# Altium footprint library Connector.PcbLib: 170 footprints (part 8 of 11)
Each footprint in its own frame and in the unit in brackets; x right, y up, seen from the top. Pads: shape width x height; smd on the part's side, far side on the other; paste and mask are expansions set on the pad; w line width, h text height; cw(c..) or ccw(c..) is an arc to the next point about the centre after c.
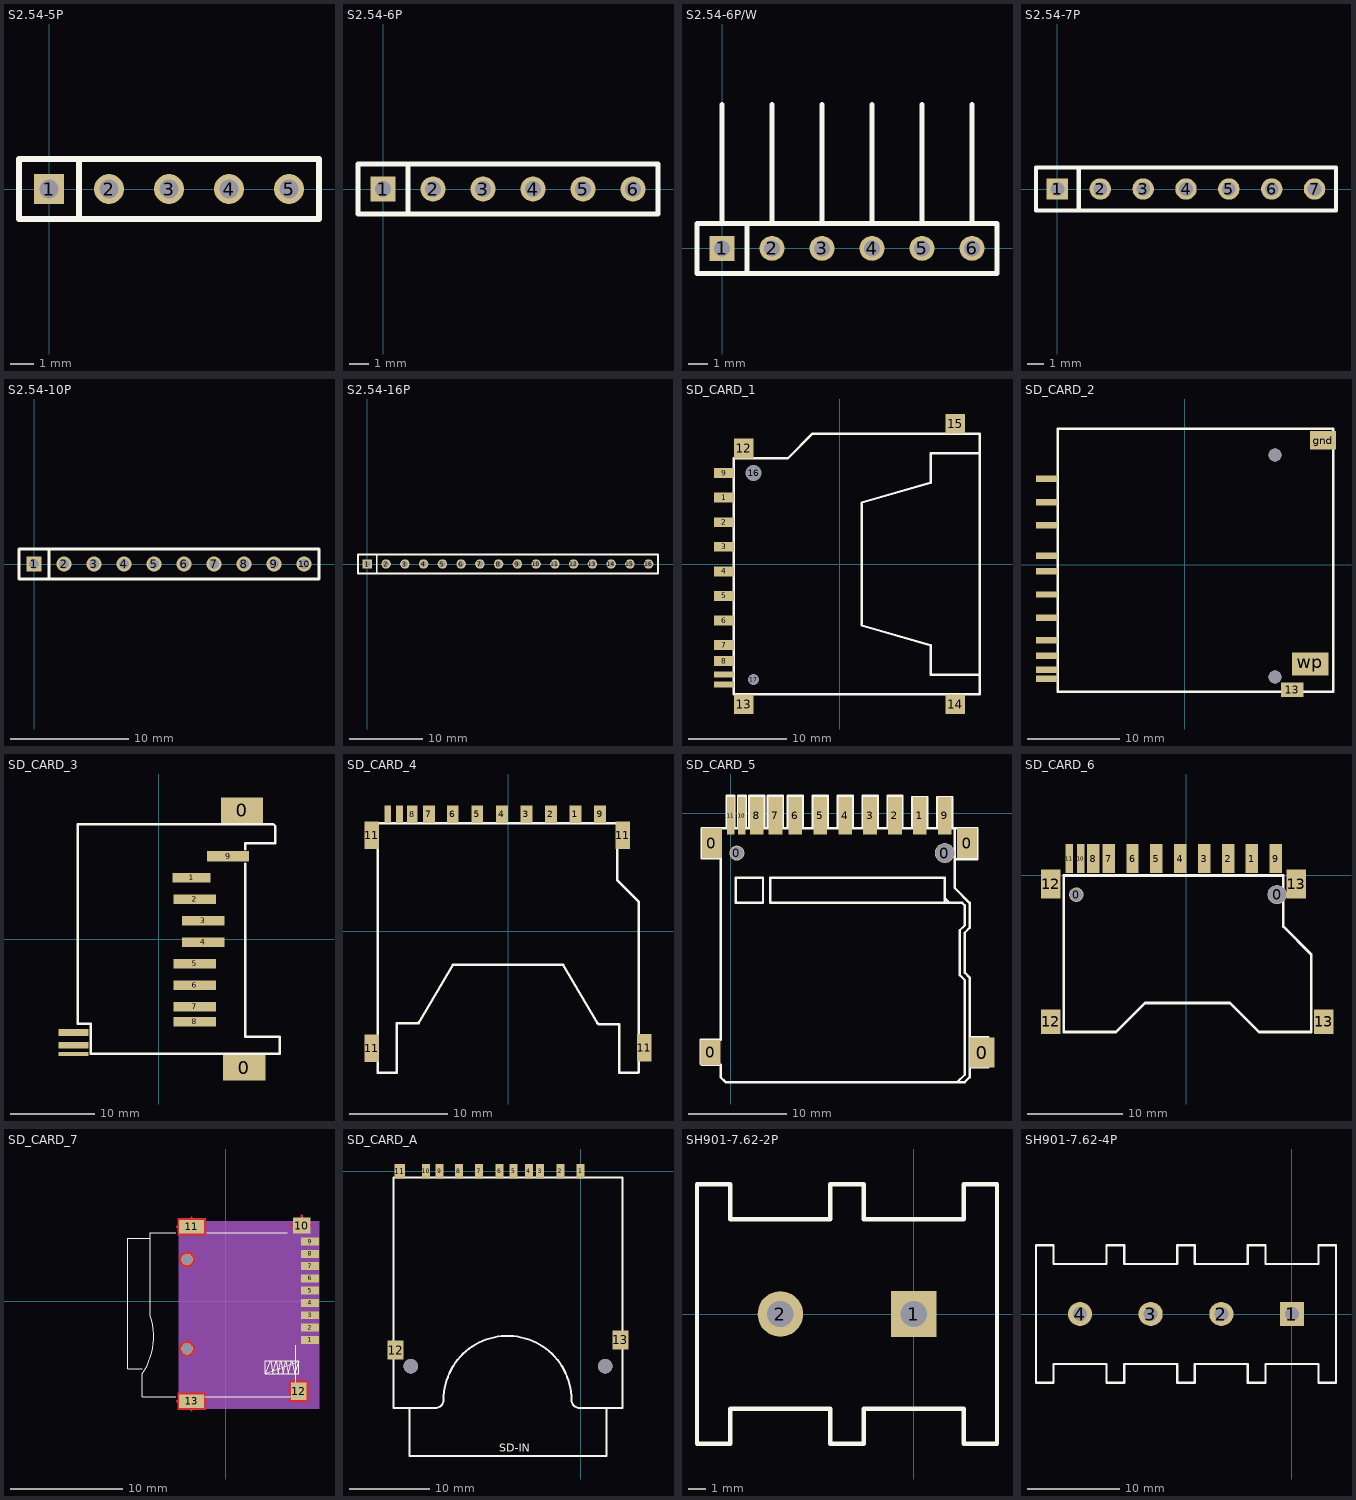
[diagram p7: the footprints below, top view; thin cyan lines are the x and y axes]

## S2.54-5P [mil] "P-SIP5"
pads (5):
  rect 50x50 hole 32: 1(0,0)
  round 50 hole 32: 2(100,0) 3(200,0) 4(300,0) 5(400,0)
Top Overlay:
  lines w10: 50,-50 50,50 ; -50,-50 -50,50 450,50 450,-50 -50,-50
3D body: height 314.96, standoff -78.74, extent 384,-16 415.37,15.43
3D body: height 314.96, standoff -78.74, extent 284,-16 315.37,15.43
3D body: height 314.96, standoff -78.74, extent 184,-16 215.37,15.43
3D body: height 314.96, standoff -78.74, extent 84,-16 115.37,15.43
3D body: height 314.96, standoff -78.74, extent -16,-16 15.37,15.43
3D body: height 100, standoff 0, extent -50,-50 450,50

## S2.54-6P [mil] "P-SIP6"
pads (6):
  rect 50x50 hole 32: 1(0,0)
  round 50 hole 32: 2(100,0) 3(200,0) 4(300,0) 5(400,0) 6(500,0)
Top Overlay:
  lines w10: 50,-50 50,50 ; -50,-50 550,-50 550,50 -50,50 -50,-50
3D body: height 100, standoff 0, extent -50,-50 550,50
3D body: height 314.96, standoff -78.74, extent -16,-16 15.37,15.43
3D body: height 314.96, standoff -78.74, extent 84,-16 115.37,15.43
3D body: height 314.96, standoff -78.74, extent 184,-16 215.37,15.43
3D body: height 314.96, standoff -78.74, extent 284,-16 315.37,15.43
3D body: height 314.96, standoff -78.74, extent 384,-16 415.37,15.43
3D body: height 314.96, standoff -78.74, extent 484,-16 515.37,15.43

## S2.54-6P/W [mil] "P-SIP6-W"
pads (6):
  rect 50x50 hole 32: 1(0,0)
  round 50 hole 32: 2(100,0) 3(200,0) 4(300,0) 5(400,0) 6(500,0)
Top Overlay:
  lines w10: 0,50 0,287.4 ; 50,-50 50,50 ; 100,50 100,287.4 ; 200,50 200,287.4 ; 300,50 300,287.4 ; 400,50 400,287.4 ; 500,50 500,287.4 ; -50,-50 -50,50 550,50 550,-50 -50,-50
3D body: height 188.98, standoff -78.74, extent 484.35,-15.72 515.72,15.72
3D body: height 204.6, standoff 173.23, extent 484.28,0 515.72,295.28
3D body: height 188.98, standoff -78.74, extent 384.35,-15.72 415.72,15.72
3D body: height 204.6, standoff 173.23, extent 384.28,0 415.72,295.28
3D body: height 188.98, standoff -78.74, extent 284.35,-15.72 315.72,15.72
3D body: height 204.6, standoff 173.23, extent 284.28,0 315.72,295.28
3D body: height 188.98, standoff -78.74, extent 184.35,-15.72 215.72,15.72
3D body: height 204.6, standoff 173.23, extent 184.28,0 215.72,295.28
3D body: height 188.98, standoff -78.74, extent 84.35,-15.72 115.72,15.72
3D body: height 204.6, standoff 173.23, extent 84.28,0 115.72,295.28
3D body: height 204.6, standoff 173.23, extent -16.06,-0.28 15.37,294.99
3D body: height 188.98, standoff -78.74, extent -16,-16 15.37,15.43
3D body: height 100, standoff 0, extent -50,-50 550,50

## S2.54-7P [mil] "P-SIP7"
pads (7):
  rect 50x50 hole 32: 1(0,0)
  round 50 hole 32: 2(100,0) 3(200,0) 4(300,0) 5(400,0) 6(500,0) 7(600,0)
Top Overlay:
  lines w10: 50,-50 50,50 ; -50,-50 650,-50 650,50 -50,50 -50,-50
3D body: height 314.96, standoff -78.74, extent 484,-16 515.37,15.43
3D body: height 314.96, standoff -78.74, extent 384,-16 415.37,15.43
3D body: height 314.96, standoff -78.74, extent 284,-16 315.37,15.43
3D body: height 314.96, standoff -78.74, extent 184,-16 215.37,15.43
3D body: height 314.96, standoff -78.74, extent 84,-16 115.37,15.43
3D body: height 314.96, standoff -78.74, extent -16,-16 15.37,15.43
3D body: height 100, standoff 0, extent -50,-50 650,50
3D body: height 314.96, standoff -78.74, extent 584,-16 615.37,15.43

## S2.54-10P [mil] "P-SIP10"
pads (10):
  rect 50x50 hole 32: 1(0,0)
  round 50 hole 32: 2(100,0) 3(200,0) 4(300,0) 5(400,0) 6(500,0) 7(600,0) 8(700,0) 9(800,0) 10(900,0)
Top Overlay:
  lines w10: 50,-50 50,50 ; -50,-50 950,-50 950,50 -50,50 -50,-50
3D body: height 314.96, standoff -78.74, extent 584,-16 615.37,15.43
3D body: height 100, standoff 0, extent -50,-50 950,50
3D body: height 314.96, standoff -78.74, extent -16,-16 15.37,15.43
3D body: height 314.96, standoff -78.74, extent 84,-16 115.37,15.43
3D body: height 314.96, standoff -78.74, extent 184,-16 215.37,15.43
3D body: height 314.96, standoff -78.74, extent 284,-16 315.37,15.43
3D body: height 314.96, standoff -78.74, extent 384,-16 415.37,15.43
3D body: height 314.96, standoff -78.74, extent 484,-16 515.37,15.43
3D body: height 314.96, standoff -78.74, extent 684,-16 715.37,15.43
3D body: height 314.96, standoff -78.74, extent 784,-16 815.37,15.43
3D body: height 314.96, standoff -78.74, extent 884,-16 915.37,15.43

## S2.54-16P [mil] "P-SIP16"
pads (16):
  rect 50x50 hole 32: 1(0,0)
  round 50 hole 32: 2(100,0) 3(200,0) 4(300,0) 5(400,0) 6(500,0) 7(600,0) 8(700,0) 9(800,0) 10(900,0) 11(1000,0) 12(1100,0) 13(1200,0) 14(1300,0) 15(1400,0) 16(1500,0)
Top Overlay:
  lines w10: 50,-50 50,50 ; -50,-50 -50,50 1550,50 1550,-50 -50,-50
3D body: height 314.96, standoff -78.74, extent 884,-16 915.37,15.43
3D body: height 314.96, standoff -78.74, extent 784,-16 815.37,15.43
3D body: height 314.96, standoff -78.74, extent 684,-16 715.37,15.43
3D body: height 314.96, standoff -78.74, extent 484,-16 515.37,15.43
3D body: height 314.96, standoff -78.74, extent 384,-16 415.37,15.43
3D body: height 314.96, standoff -78.74, extent 284,-16 315.37,15.43
3D body: height 314.96, standoff -78.74, extent 184,-16 215.37,15.43
3D body: height 314.96, standoff -78.74, extent 84,-16 115.37,15.43
3D body: height 314.96, standoff -78.74, extent -16,-16 15.37,15.43
3D body: height 100, standoff 0, extent -50,-50 1550,50
3D body: height 314.96, standoff -78.74, extent 584,-16 615.37,15.43
3D body: height 314.96, standoff -78.74, extent 984,-16 1015.37,15.43
3D body: height 314.96, standoff -78.74, extent 1084,-16 1115.37,15.43
3D body: height 314.96, standoff -78.74, extent 1184,-16 1215.37,15.43
3D body: height 314.96, standoff -78.74, extent 1284,-16 1315.37,15.43
3D body: height 314.96, standoff -78.74, extent 1384,-16 1415.37,15.43
3D body: height 314.96, standoff -78.74, extent 1484,-16 1515.37,15.43

## SD_CARD_1 [mm]
pads (17):
  rect 2x1 smd: 1(-11.75,6.75) 2(-11.75,4.25) 3(-11.75,1.75) 4(-11.75,-0.75) 5(-11.75,-3.25) 6(-11.75,-5.75) 7(-11.75,-8.25) 8(-11.75,-9.875) 9(-11.75,9.25)
  rect 2x0.6 smd: 10(-11.75,-12.25) 11(-11.75,-11.25)
  rect 2x2 smd: 12(-9.75,11.75) 13(-9.75,-14.25) 14(11.75,-14.25) 15(11.75,14.25)
  round 1.5 hole 1.6: 16(-8.75,9.25)
  round 1 hole 1.1: 17(-8.75,-11.75)
Top Overlay:
  lines w0.254: 14.25,-11.25 9.25,-11.25 9.25,-8.25 2.25,-6.25 2.25,6.25 9.25,8.25 9.25,11.25 14.25,11.25 ; -10.75,-13.25 -10.75,10.75 -5.25,10.75 -2.75,13.25 14.25,13.25 14.25,-13.25 -10.75,-13.25

## SD_CARD_2 [mm]
pads (14):
  rect 2.35x0.7 smd: 1(-14.935,6.8) 2(-14.935,4.3) 3(-14.935,1) 4(-14.935,-0.7) 5(-14.935,-3.2) 6(-14.935,-5.7) 7(-14.935,-8.13) 8(-14.935,-9.82) 9(-14.935,9.3) cd(-14.935,-11.32) com(-14.935,-12.32)
  rect 2.4x1.6 smd: 13(11.595,-13.5)
  rect 2.8x2 smd: gnd(14.935,13.5)
  rect 3.95x2.5 smd: wp(13.565,-10.7)
via 9.735,-12.1 diameter 1.4 hole 1.4
via 9.735,11.9 diameter 1.4 hole 1.4
Top Overlay:
  lines w0.254: -13.76,-13.72 -13.76,14.72 16.045,14.72 16.045,-13.72 -13.76,-13.72

## SD_CARD_3 [mm]
pads (14):
  rect 5x3 smd: 0(9.843,15.24) 0(10.097,-15.24)
  rect 4.5x1.143 smd: 1(3.874,7.239)
  rect 5x1.143 smd: 2(4.255,4.699) 3(5.271,2.159) 4(5.271,-0.381) 5(4.255,-2.921) 6(4.255,-5.461) 7(4.255,-8.001) 8(4.255,-9.779)
  rect 5x1.27 smd: 9(8.192,9.779)
  rect 3.556x0.8 smd: 10(-10.097,-11.049) 11(-10.097,-12.573)
  rect 3.556x0.5 smd: 12(-10.097,-13.589)
Top Overlay:
  lines w0.3: 7.683,-13.589 14.287,-13.589 14.287,-11.557 10.223,-11.557 10.223,8.889 ; 8.191,-13.589 -8.065,-13.589 -8.065,-10.033 -9.589,-10.033 -9.589,13.589 8.191,13.589 13.525,13.589 13.779,13.335 13.779,11.303 10.223,11.303 10.223,10.59

## SD_CARD_4 [mm]
pads (15):
  rect 1.2x1.8 smd: 1(6.858,11.917) 2(4.369,11.917) 3(1.875,11.908) 4(-0.625,11.908) 5(-3.125,11.908) 6(-5.625,11.908) 7(-8.05,11.908) 9(9.375,11.908)
  rect 1.1x1.8 smd: 8(-9.754,11.917)
  rect 0.7x1.8 smd: 10(-11.05,11.908) 12(-12.243,11.917)
  rect 1.5x2.8 smd: 11(-13.868,-11.917) 11(-13.868,9.774) 11(11.684,9.774) 11(13.868,-11.866)
Top Overlay:
  lines w0.254: -11.3,-9.383 -11.3,-14.383 -13.273,-14.383 -13.273,11.003 -13.259,11.017 11.1,11.017 11.1,5.207 13.289,3.018 13.3,3.018 13.3,-14.356 13.273,-14.383 11.3,-14.383 11.3,-9.484 9.258,-9.484 9.1,-9.326 ; -11.249,-9.377 -9.207,-9.377 -9.049,-9.219 ; -9.1,-9.377 -5.588,-3.383 ; -5.6,-3.383 5.6,-3.383 9.1,-9.377
Multi-Layer:
  circle w0.254: c-11.532,8.617 r0.58
  circle w0.254: c9.5,8.657 r0.82

## SD_CARD_5 [mil] "SD插座1"
pads (17):
  rect 80x100 smd: 0(-80,-960)
  rect 80x120 smd: 0(-75,-120) 0(950,-120)
  round 60 hole 52: 0(25,-160)
  round 80 hole 75: 0(860,-160)
  rect 100x120 smd: 0(1009.63,-960.84)
  rect 55x150 smd: 1(760,-10) 2(660,-10) 3(560,-10) 4(460,-10) 5(360,-10) 6(260,-10) 7(180,-10) 8(105,-10) 9(860,-10)
  rect 30x150 smd: 10(45,-10) 11(0,-10)
Top Overlay:
  lines w10: -15,-60 -15,70 15,70 15,-60 -40,-60 -115,-60 -115,-180 -40,-180 -40,-910 -120,-910 -120,-1005 -115,-1010 -40,-1010 -40,-1060 -20,-1080 -10,-1080 940,-1080 960,-1060 960,-660 940,-640 940,-480 960,-460 960,-450 960,-380 960,-360 900,-300 900,-70 900,-60 ; 10,-60 900,-60 ; 30,-60 30,70 60,70 60,-60 ; 75,-55 75,70 135,70 135,-55 ; 110,-360 130,-360 130,-260 20,-260 20,-360 120,-360 ; 150,-55 150,70 210,70 210,-55 ; 230,-55 230,70 290,70 290,-55 ; 330,-55 330,70 390,70 390,-55 ; 430,-55 430,70 490,70 490,-55 ; 530,-55 530,70 590,70 590,-55 ; 630,-55 630,70 690,70 690,-55 ; 730,-60 730,65 790,65 790,-60 ; 830,-60 830,65 890,65 890,-60 ; 860,-340 880,-360 ; 900,-185 990,-185 990,-60 900,-60 ; 910,-1080 940,-1050 940,-680 940,-670 920,-650 920,-470 940,-450 940,-370 930,-360 860,-360 ; 960,-1020 1035,-1020 ; 960,-900 1035,-900 ; 860,-360 860,-350 860,-260 160,-260 160,-360 860,-360

## SD_CARD_6 [mm] "SD卡插座0903"
pads (17):
  round 1.524 hole 1.321: 0(-11.5,-2)
  round 2 hole 1.9: 0(9.5,-2)
  rect 1.3x3 smd: 1(6.875,1.778) 2(4.375,1.778) 3(1.875,1.778) 4(-0.625,1.778) 5(-3.125,1.778) 6(-5.625,1.778) 7(-8.125,1.778) 8(-9.75,1.778) 9(9.375,1.778)
  rect 0.762x3 smd: 10(-11.05,1.778) 11(-12.25,1.778)
  rect 2.032x2.54 smd: 12(-14.2,-15.3) 13(14.4,-15.3)
  rect 2.032x3.048 smd: 12(-14.2,-0.9) 13(11.5,-0.9)
Top Overlay:
  lines w0.279: -12.827,-16.383 -12.827,0 10.16,0 10.16,-5.334 13.081,-8.255 13.081,-16.383 7.62,-16.383 4.572,-13.335 0,-13.335 -4.318,-13.335 -7.366,-16.383 -12.827,-16.383

## SD_CARD_7 [mil] "This is 9信号的，适用于A33"
pads (15):
  rect 63x28 smd: 1(297.65,-135.8) 2(297.65,-92.5) 3(297.65,-49.19) 4(297.65,-5.88) 5(297.65,37.42) 6(297.65,80.73) 7(297.65,124.04) 8(297.65,167.35) 9(297.65,210.65)
  rect 63x55 smd: 10(268.28,266.9)
  rect 87x47 smd: 11(-119.67,262.9) 13(-119.67,-352.34)
  rect 55x63 smd: 12(258.28,-316.91)
  round 39.37 / inner round 60 / far side round 39.37 hole 39.37: " "(-135.42,-167.3) " "(-135.42,147.66)
Top Layer:
  pour cut-out: -107.49,-167.3 -108.44,-160.07 -111.23,-153.34 -115.67,-147.56 -121.45,-143.12 -128.19,-140.33 -135.42,-139.38 -142.64,-140.33 -149.38,-143.12 -155.16,-147.56 -159.6,-153.34 -162.39,-160.07 -163.34,-167.3 -162.39,-174.53 -159.6,-181.27 -155.16,-187.05 -149.38,-191.49 -142.64,-194.28 -135.42,-195.23 -128.19,-194.28 -121.45,-191.49 -115.67,-187.05 -111.23,-181.27 -108.44,-174.53
  pour cut-out: -107.49,147.66 -108.44,154.89 -111.23,161.62 -115.67,167.4 -121.45,171.84 -128.19,174.63 -135.42,175.58 -142.64,174.63 -149.38,171.84 -155.16,167.4 -159.6,161.62 -162.39,154.89 -163.34,147.66 -162.39,140.43 -159.6,133.69 -155.16,127.91 -149.38,123.47 -142.64,120.68 -135.42,119.73 -128.19,120.68 -121.45,123.47 -115.67,127.91 -111.23,133.69 -108.44,140.43
  pour cut-out: 291.79,-279.41 291.79,-354.41 224.78,-354.41 224.78,-279.41
  pour cut-out: -70.16,-322.84 -70.16,-381.84 -169.17,-381.84 -169.17,-322.84
  pour cut-out: -70.16,292.4 -70.16,233.4 -169.17,233.4 -169.17,292.4
  lines w6: 297.65,-92.5 297.93,-92.22
  lines w8: -171.17,-352.34 -119.67,-352.34 ; -171.17,262.9 -119.67,262.9 ; -119.67,-383.84 -119.67,-352.34 ; -119.67,-320.84 -119.67,-352.34 ; -119.67,231.4 -119.67,262.9 ; -119.67,294.4 -119.67,262.9 ; -68.16,-352.34 -119.67,-352.34 ; -68.16,262.9 -119.67,262.9 ; 222.78,-316.91 258.28,-316.91 ; 228.78,266.9 268.28,266.9 ; 258.28,-356.41 258.28,-316.91 ; 258.28,-277.41 258.28,-316.91 ; 268.28,302.4 268.28,266.9 ; 293.79,-316.91 258.28,-316.91 ; 307.79,266.9 268.28,266.9
Bottom Layer:
  pour cut-out: -107.49,-167.3 -108.44,-160.07 -111.23,-153.34 -115.67,-147.56 -121.45,-143.12 -128.19,-140.33 -135.42,-139.38 -142.64,-140.33 -149.38,-143.12 -155.16,-147.56 -159.6,-153.34 -162.39,-160.07 -163.34,-167.3 -162.39,-174.53 -159.6,-181.27 -155.16,-187.05 -149.38,-191.49 -142.64,-194.28 -135.42,-195.23 -128.19,-194.28 -121.45,-191.49 -115.67,-187.05 -111.23,-181.27 -108.44,-174.53
  pour cut-out: -107.49,147.66 -108.44,154.89 -111.23,161.62 -115.67,167.4 -121.45,171.84 -128.19,174.63 -135.42,175.58 -142.64,174.63 -149.38,171.84 -155.16,167.4 -159.6,161.62 -162.39,154.89 -163.34,147.66 -162.39,140.43 -159.6,133.69 -155.16,127.91 -149.38,123.47 -142.64,120.68 -135.42,119.73 -128.19,120.68 -121.45,123.47 -115.67,127.91 -111.23,133.69 -108.44,140.43
Top Overlay:
  lines w3: -293.29,-238.17 -344.08,-238.17 -344.08,222.46 -266.92,222.46 ; -174.79,-336.59 -292.9,-336.59 -292.9,-255.49 ccw(c-490.65,-124.8) -265.34,-51.16 -265.34,242.15 -174.79,242.15 ; -73.61,-336.59 246.47,-336.59 246.47,-155.49 ; -66.36,242.15 217.1,242.15 ; 140.17,-255.88 258.28,-255.88 258.28,-208.64 140.17,-208.64 140.17,-255.88 ; 141.35,-253.91 159.07,-209.03 165.37,-255.49 178.36,-209.03 185.84,-255.49 194.5,-209.03 202.38,-255.49 211.43,-209.03 221.27,-255.49 233.08,-209.03 244.5,-255.49 259.07,-210.61 141.35,-253.91
Mechanical 9:
  text "9" at 287.65,210.65 h25
  text "12" at 238.28,-316.91 h25
  text "6" at 287.65,80.73 h25
  text "13" at -139.67,-352.34 h25
  text "11" at -139.67,262.9 h25
  text "10" at 248.28,266.9 h25
  text "4" at 287.65,-5.88 h25
  text "2" at 287.65,-92.5 h25
  text "3" at 287.65,-49.19 h25
  text "1" at 287.65,-135.8 h25
  text "5" at 287.65,37.42 h25
  text "7" at 287.65,124.04 h25
  text "8" at 287.65,167.35 h25
Mechanical 10:
  region: 329.15,281.52 -162.98,281.52 -162.98,-375.96 329.15,-375.96
Mechanical 11:
  lines w1: -162.98,-375.96 329.15,-375.96 329.15,281.52 -162.98,281.52 -162.98,-375.96

## SD_CARD_A [mm]
pads (13):
  rect 1x1.8 smd: 1(0,0) 2(-2.54,0) 3(-5.08,0) 4(-6.477,0) 5(-8.363,-0.01) 6(-10.141,-0.01) 7(-12.7,0) 8(-15.221,-0.01) 9(-17.634,-0.01) 10(-19.304,0)
  rect 1.3x1.8 smd: 11(-22.606,0)
  rect 2x2.4 smd: 12(-23.114,-22.352) 13(4.953,-21.082)
via -21.209,-24.384 diameter 1.8 hole 1.8
via 3.048,-24.384 diameter 1.8 hole 1.8
Top Overlay:
  lines w0.254: -21.368,-35.591 -21.368,-29.622 ; -21.337,-35.591 3.195,-35.591 3.195,-29.591 ; -18.143,-29.591 -23.368,-29.591 -23.368,-0.762 5.195,-0.762 5.195,-29.591 -0.143,-29.591 ; -18.143,-29.575 ccw(c-18.143,-28.575) -17.143,-28.575 cw(c-9.143,-28.575) -1.143,-28.575 ccw(c-0.143,-28.575) -0.143,-29.575
  text "SD-IN" at -10.16,-35.052 h1.02
3D body: height 2, standoff 0, extent -23.241,-29.464 4.699,-1.27

## SH901-7.62-2P [mm]
pads (2):
  rect 2.6x2.6 hole 1.5: 1(0,0)
  round 2.6 hole 1.5: 2(-7.62,0)
Top Overlay:
  lines w0.254: -12.38,-5.4 -12.38,-7.4 ; -12.38,5.4 -12.38,7.4 ; -12.38,-7.4 -12.38,7.4 ; -12.38,-7.4 -10.48,-7.4 -10.48,-5.4 -4.76,-5.4 -4.76,-7.4 -2.86,-7.4 -2.86,-5.4 2.86,-5.4 2.86,-7.4 4.75,-7.4 4.75,7.4 2.86,7.4 2.86,5.4 -2.86,5.4 -2.86,7.4 -4.76,7.4 -4.76,5.4 -10.48,5.4 -10.48,7.4 -12.38,7.4
3D body: height 10.5, standoff 8.5, extent -2.54,-3.81 2.159,3.81
3D body: height 10.5, standoff 8.5, extent -10.16,-3.81 -5.461,3.81
3D body: height 8.5, standoff 0.7, extent -12.446,-5.334 4.699,5.461
3D body: height 15, standoff 0, extent -12.446,-7.493 -10.414,7.493
3D body: height 15, standoff 0, extent -4.826,-7.493 -2.794,7.493
3D body: height 15, standoff 0, extent 2.794,-7.493 4.826,7.493
3D body: height 4, standoff -4, extent -8.001,-0.508 -7.239,0.508
3D body: height 4, standoff -4, extent -0.381,-0.508 0.381,0.508

## SH901-7.62-4P [mm]
pads (4):
  rect 2.6x2.6 hole 1.5: 1(0,0)
  round 2.6 hole 1.5: 2(-7.62,0) 3(-15.24,0) 4(-22.86,0)
Top Overlay:
  lines w0.254: -27.61,-7.4 -25.72,-7.4 -25.72,-5.4 -20,-5.4 -20,-7.4 -18.1,-7.4 -18.1,-5.4 -12.38,-5.4 -12.38,-7.4 -10.48,-7.4 -10.48,-5.4 -4.76,-5.4 -4.76,-7.4 -2.86,-7.4 -2.86,-5.4 2.86,-5.4 2.86,-7.4 4.75,-7.4 4.75,7.4 2.86,7.4 2.86,5.4 -2.86,5.4 -2.86,7.4 -4.76,7.4 -4.76,5.4 -10.48,5.4 -10.48,7.4 -12.38,7.4 -12.38,5.4 -18.1,5.4 -18.1,7.4 -20,7.4 -20,5.4 -25.72,5.4 -25.72,7.4 -27.61,7.4 -27.61,-7.4
3D body: height 10.5, standoff 8.5, extent -2.54,-3.81 2.159,3.81
3D body: height 10.5, standoff 8.5, extent -10.16,-3.81 -5.461,3.81
3D body: height 10.5, standoff 8.5, extent -17.78,-3.81 -13.081,3.81
3D body: height 10.5, standoff 8.5, extent -25.4,-3.81 -20.701,3.81
3D body: height 8.5, standoff 0.7, extent -27.686,-5.334 4.699,5.461
3D body: height 15, standoff 0, extent -27.686,-7.493 -25.654,7.493
3D body: height 15, standoff 0, extent -20.066,-7.493 -18.034,7.493
3D body: height 15, standoff 0, extent -12.446,-7.493 -10.414,7.493
3D body: height 15, standoff 0, extent -4.826,-7.493 -2.794,7.493
3D body: height 15, standoff 0, extent 2.794,-7.493 4.826,7.493
3D body: height 4, standoff -4, extent -23.241,-0.508 -22.479,0.508
3D body: height 4, standoff -4, extent -15.621,-0.508 -14.859,0.508
3D body: height 4, standoff -4, extent -8.001,-0.508 -7.239,0.508
3D body: height 4, standoff -4, extent -0.381,-0.508 0.381,0.508